# Altium footprint library Chip_Passives.PcbLib: 2 footprints
Each footprint in its own frame and in the unit in brackets; x right, y up, seen from the top. Pads: shape width x height; smd on the part's side, far side on the other; paste and mask are expansions set on the pad; w line width, h text height; cw(c..) or ccw(c..) is an arc to the next point about the centre after c.
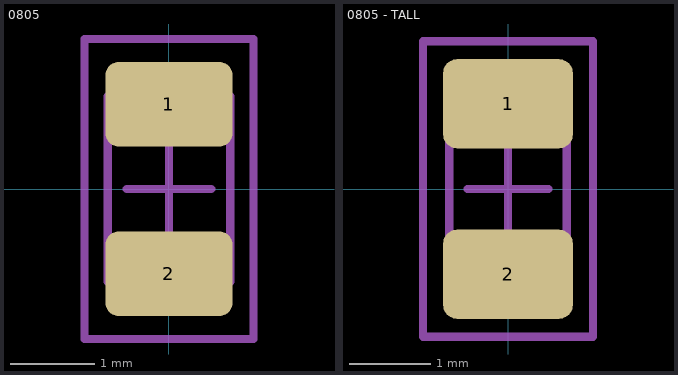
[diagram p0: the footprints below, top view; thin cyan lines are the x and y axes]

## 0805 [mm] "Chip Capacitor, 2-Leads, Body 2.0x1.3mm, IPC Medium Density"
height 0.8
pads (2):
  rrect30% 1.5x1 smd paste-0.04: 1(0,1.002) 2(0,-1.002)
Mechanical 13:
  lines w0.1: -0.725,-1.1 -0.725,1.1 0.725,1.1 0.725,-1.1 -0.725,-1.1
Mechanical 15:
  lines w0.1: -0.5,0 0.5,0 ; 0,-0.5 0,0.5 ; -1,-1.775 -1,1.775 1,1.775 1,-1.775 -1,-1.775
Assembly:
  lines w0.1: -1,-1.775 1,-1.775 1,1.775 -1,1.775 -1,-1.775
  text ".Designator" at 0.2,-1.6 h0.9
3D body: height 0.8, standoff 0, extent -0.725,-1.1 0.725,1.1

## 0805 - TALL [mm] "Same as 0805 footprint, but solder mask is adjusted to leave more paste behind for tall (>0.9mm) components like big caps, which tend to be solder-starved on the regular footprint."
height 0.8
pads (2):
  rrect30% 1.6x1.1 smd paste-0.04: 1(0,1.052) 2(0,-1.052)
Mechanical 13:
  lines w0.1: -0.725,-1.1 -0.725,1.1 0.725,1.1 0.725,-1.1 -0.725,-1.1
Mechanical 15:
  lines w0.1: -0.5,0 0.5,0 ; 0,-0.5 0,0.5 ; -1.05,-1.825 -1.05,1.825 1.05,1.825 1.05,-1.825 -1.05,-1.825
Assembly:
  lines w0.1: -1.05,-1.825 -1.05,1.825 1.05,1.825 1.05,-1.825 -1.05,-1.825
  text ".Designator" at 0.2,-1.6 h0.9
3D body: height 0.8, standoff 0, extent -0.725,-1.1 0.725,1.1